# EAGLE library part 74FST3125_ALT_BLOCK (library Fairchild)
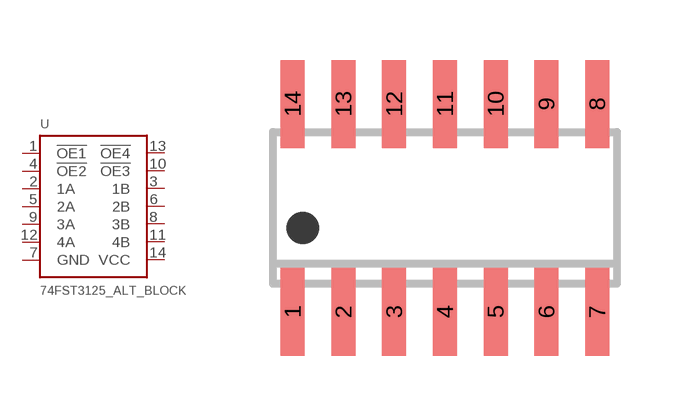
[diagram p3: symbol with the pads of SO14; footprint SO14]

Designator prefix U

## 74FST3125_ALT_BLOCK  [SO14]
1  !OE1
2  1A
3  1B
4  !OE2
5  2A
6  2B
7  GND
8  3B
9  3A
10  !OE3
11  4B
12  4A
13  !OE4
14  VCC

## Footprint SO14 (pad centres in mm)
SMALL OUTLINE INTEGRATED CIRCUIT body 3.9 mm/JEDEC MS-012AC
smd 0.6 x 2.2: 1 -3.81,-2.6; 2 -2.54,-2.6; 3 -1.27,-2.6; 4 0,-2.6; 5 1.27,-2.6; 6 2.54,-2.6; 7 3.81,-2.6; 8 3.81,2.6; 9 2.54,2.6; 10 1.27,2.6; 11 0,2.6; 12 -1.27,2.6; 13 -2.54,2.6; 14 -3.81,2.6